# Altium footprint library 1-1337542-0.PcbLib: 1 footprints
Each footprint in its own frame and in the unit in brackets; x right, y up, seen from the top. Pads: shape width x height; smd on the part's side, far side on the other; paste and mask are expansions set on the pad; w line width, h text height; cw(c..) or ccw(c..) is an arc to the next point about the centre after c.
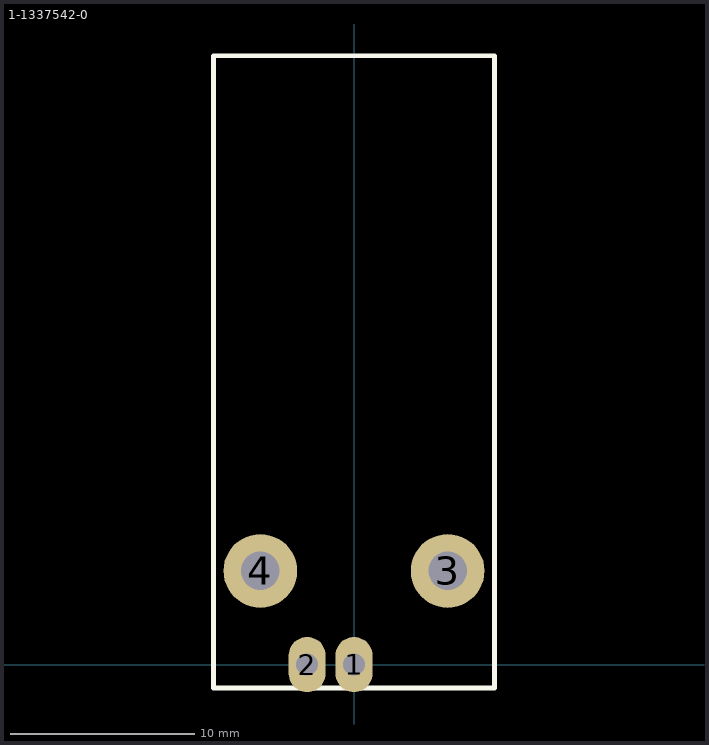
[diagram p0: the footprint, top view; thin cyan lines are the x and y axes]

## 1-1337542-0 [mm]
pads (4):
  oval 2x3 hole 1.2: 1(0,0) 2(-2.54,0)
  round 4 hole 2.1: 3(5.08,5.08) 4(-5.08,5.08)
Top Overlay:
  lines w0.254: -7.62,-1.27 7.62,-1.27 7.62,33.02 1.27,33.02 -7.62,33.02 -7.62,-1.27
3D body: height 13.27, standoff -4.02, extent -7.379,-1.27 7.379,33.655